# EAGLE library part SSW-115-02-S-S (library con-samtec)
THROUGH-HOLE .025" SQ POST SOCKET Source: Samtec SSW.pdf
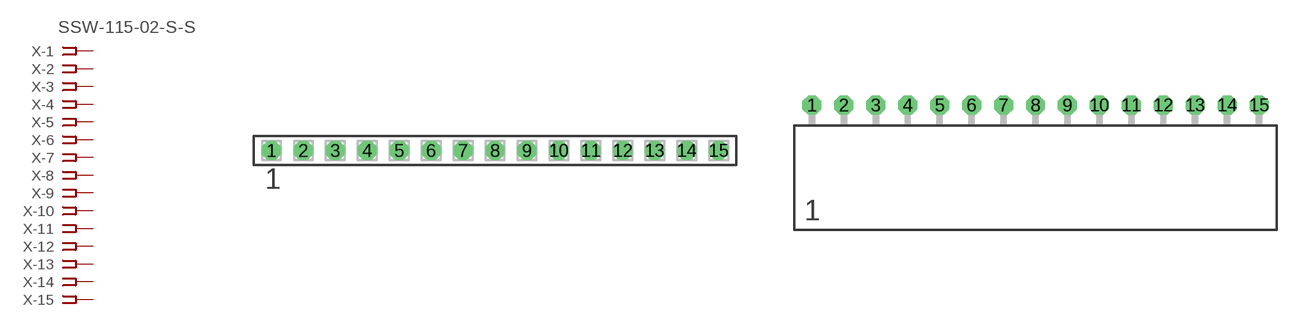
[diagram p89: symbol with the pads of SSW-115-02-S-S; footprints SSW-115-02-S-S, SSW-115-02-S-S-RA]

Designator prefix X; gates -1=FPINV -2=FPIN -3=FPIN -4=FPIN -5=FPIN -6=FPIN -7=FPIN -8=FPIN -9=FPIN -10=FPIN -11=FPIN -12=FPIN -13=FPIN -14=FPIN -15=FPIN

## SSW-115-02-S-S  [SSW-115-02-S-S]
1  -1:1  pas
2  -2:1  pas
3  -3:1  pas
4  -4:1  pas
5  -5:1  pas
6  -6:1  pas
7  -7:1  pas
8  -8:1  pas
9  -9:1  pas
10  -10:1  pas
11  -11:1  pas
12  -12:1  pas
13  -13:1  pas
14  -14:1  pas
15  -15:1  pas

## SSW-115-02-S-S-RA  [SSW-115-02-S-S-RA]
Pads as for SSW-115-02-S-S

## Footprint SSW-115-02-S-S (pad centres in mm)
THROUGH-HOLE .025" SQ POST SOCKET Source: Samtec SSW.pdf
drill 1 pad 1.5 octagon: 1 -17.78,0; 2 -15.24,0; 3 -12.7,0; 4 -10.16,0; 5 -7.62,0; 6 -5.08,0; 7 -2.54,0; 8 0,0; 9 2.54,0; 10 5.08,0; 11 7.62,0; 12 10.16,0; 13 12.7,0; 14 15.24,0; 15 17.78,0

## Footprint SSW-115-02-S-S-RA (pad centres in mm)
THROUGH-HOLE .025" SQ POST SOCKET Source: Samtec SSW.pdf
drill 1 pad 1.5 octagon: 1 -17.78,1.524; 2 -15.24,1.524; 3 -12.7,1.524; 4 -10.16,1.524; 5 -7.62,1.524; 6 -5.08,1.524; 7 -2.54,1.524; 8 0,1.524; 9 2.54,1.524; 10 5.08,1.524; 11 7.62,1.524; 12 10.16,1.524; 13 12.7,1.524; 14 15.24,1.524; 15 17.78,1.524